# EAGLE library part PINHD-2X16 (library pinhead)
PIN HEADER
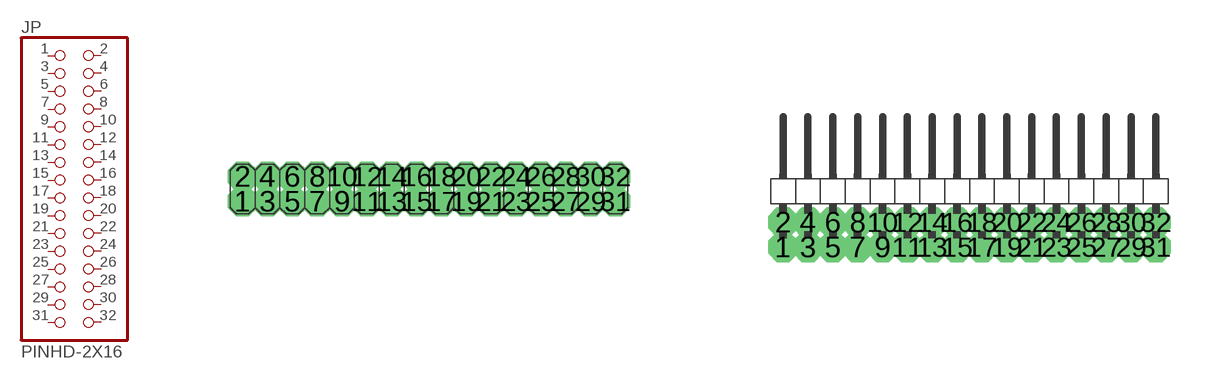
[diagram p33: symbol with the pads of 2X16; footprints 2X16, 2X16/90]

Designator prefix JP

## PINHD-2X16  [2X16]
1  1  pas
2  2  pas
3  3  pas
4  4  pas
5  5  pas
6  6  pas
7  7  pas
8  8  pas
9  9  pas
10  10  pas
11  11  pas
12  12  pas
13  13  pas
14  14  pas
15  15  pas
16  16  pas
17  17  pas
18  18  pas
19  19  pas
20  20  pas
21  21  pas
22  22  pas
23  23  pas
24  24  pas
25  25  pas
26  26  pas
27  27  pas
28  28  pas
29  29  pas
30  30  pas
31  31  pas
32  32  pas

## PINHD-2X16/90  [2X16/90]
Pads as for 2X16

## Footprint 2X16 (pad centres in mm)
PIN HEADER
drill 0.254 octagon: 1 -4.763,-0.318; 2 -4.763,0.318; 3 -4.128,-0.318; 4 -4.128,0.318; 5 -3.493,-0.318; 6 -3.493,0.318; 7 -2.857,-0.318; 8 -2.857,0.318; 9 -2.223,-0.318; 10 -2.223,0.318; 11 -1.587,-0.318; 12 -1.587,0.318; 13 -0.953,-0.318; 14 -0.953,0.318; 15 -0.318,-0.318; 16 -0.318,0.318; 17 0.318,-0.318; 18 0.318,0.318; 19 0.953,-0.318; 20 0.953,0.318; 21 1.587,-0.318; 22 1.587,0.318; 23 2.223,-0.318; 24 2.223,0.318; 25 2.857,-0.318; 26 2.857,0.318; 27 3.493,-0.318; 28 3.493,0.318; 29 4.128,-0.318; 30 4.128,0.318; 31 4.763,-0.318; 32 4.763,0.318

## Footprint 2X16/90 (pad centres in mm)
PIN HEADER
drill 0.254 octagon: 1 -4.763,-1.587; 2 -4.763,-0.953; 3 -4.128,-1.587; 4 -4.128,-0.953; 5 -3.493,-1.587; 6 -3.493,-0.953; 7 -2.857,-1.587; 8 -2.857,-0.953; 9 -2.223,-1.587; 10 -2.223,-0.953; 11 -1.587,-1.587; 12 -1.587,-0.953; 13 -0.953,-1.587; 14 -0.953,-0.953; 15 -0.318,-1.587; 16 -0.318,-0.953; 17 0.318,-1.587; 18 0.318,-0.953; 19 0.953,-1.587; 20 0.953,-0.953; 21 1.587,-1.587; 22 1.587,-0.953; 23 2.223,-1.587; 24 2.223,-0.953; 25 2.857,-1.587; 26 2.857,-0.953; 27 3.493,-1.587; 28 3.493,-0.953; 29 4.128,-1.587; 30 4.128,-0.953; 31 4.763,-1.587; 32 4.763,-0.953